# Altium schematic symbol library ACCESORIES.SchLib: 8 symbols
Pins are listed as number, name and electrical type; pins without a type are passive.

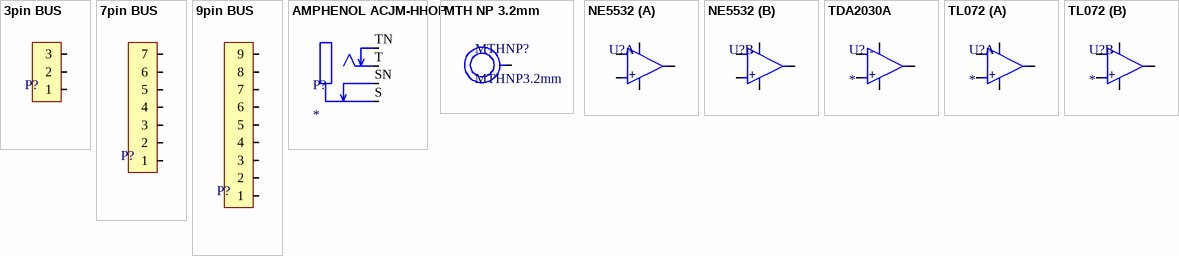
[diagram p0: symbols 3pin BUS to TL072]

## 3pin BUS
designator P?
raster 5mm
footprint 3 Pin BUS (5mm)
pins: 1, 2, 3

## 7pin BUS
designator P?
raster 5mm
footprint 7 PIN BUS
pins: 1, 2, 3, 4, 5, 6, 7

## 9pin BUS
designator P?
raster 5mm
footprint 9 pin BUS (5mm)
pins: 1, 2, 3, 4, 5, 6, 7, 8, 9

## AMPHENOL ACJM-HHOP
designator P?
footprint AMPHENOL ACJM-HHOP
pins: S, SN, T, TN

## MTH NP 3.2mm
designator MTHNP?, comment MTHNP3.2mm
Mounting hole non plated 3.2mm
footprint MTH NP 3.2mm (Mounting hole non plated 3.2mm)
pins: 1

## NE5532
designator U?
footprint DIP8
part A pins: 1 1OUT, 2 1IN-, 3 1IN+, 4 VEE, 8 VCC
part B pins: 4 VEE, 5 2IN+, 6 2IN-, 7 2OUT, 8 VCC
part A text: -; +
part B text: -; +

## TDA2030A
designator U?
footprint TDA2030A (TO220-5 package)
pins: 1 IN+, 2 IN-, 3 VEE, 4 OUT, 5 VCC
text: -; +

## TL072
designator U?
footprint DIP8
part A pins: 1 1OUT, 2 1IN-, 3 1IN+, 4 VEE, 8 VCC
part B pins: 4 VEE, 5 2IN+, 6 2IN-, 7 2OUT, 8 VCC
part A text: -; +
part B text: -; +